# Altium footprint library PcbLib1.PcbLib: 10 footprints
Each footprint in its own frame and in the unit in brackets; x right, y up, seen from the top. Pads: shape width x height; smd on the part's side, far side on the other; paste and mask are expansions set on the pad; w line width, h text height; cw(c..) or ccw(c..) is an arc to the next point about the centre after c.
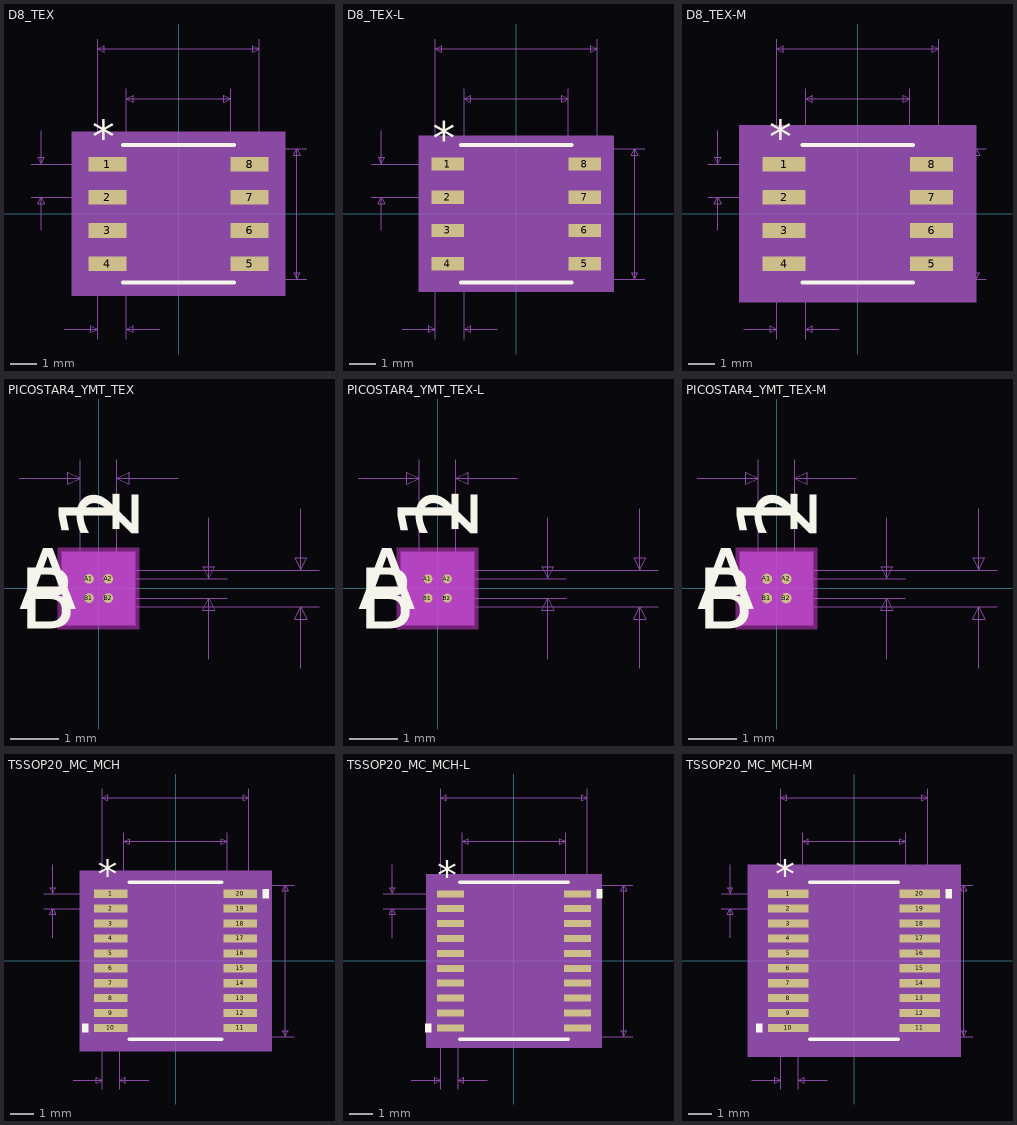
[diagram p0: the footprints below, top view; thin cyan lines are the x and y axes]

## D8_TEX [mm]
pads (8):
  rect 1.455x0.558 smd paste+0 mask+0: 1(-2.721,1.905) 2(-2.721,0.635) 3(-2.721,-0.635) 4(-2.721,-1.905) 5(2.721,-1.905) 6(2.721,-0.635) 7(2.721,0.635) 8(2.721,1.905)
Top Overlay:
  lines w0.152: -2.121,-2.629 2.121,-2.629 ; -2.121,2.629 2.121,2.629
  text "*" at -3.293,2.336 h1.27
Mechanical 5:
  region: 4.084,-3.137 -4.084,-3.137 -4.084,3.137 4.084,3.137
Mechanical 7:
  lines w0.025: -5.642,0.635 -2.721,0.635 ; -5.642,1.905 -2.721,1.905 ; -5.261,-0.635 -5.261,0.635 ; -5.261,3.175 -5.261,1.905 ; -4.369,-4.407 -3.099,-4.407 ; -3.099,-4.788 -3.099,0 -3.099,6.693 ; -1.994,-4.788 -1.994,0 -1.994,4.788 ; -0.724,-4.407 -1.994,-4.407 ; 0,-2.502 4.915,-2.502 ; 0,2.502 4.915,2.502 ; 1.994,0 1.994,4.788 ; 3.099,0 3.099,6.693 ; -5.261,0.635 -5.388,0.381 -5.134,0.381 -5.261,0.635 ; -5.261,1.905 -5.388,2.159 -5.134,2.159 -5.261,1.905 ; -3.099,-4.407 -3.353,-4.28 -3.353,-4.534 -3.099,-4.407 ; -3.099,6.312 3.099,6.312 ; -3.099,6.312 -2.845,6.439 -2.845,6.185 -3.099,6.312 ; -1.994,-4.407 -1.74,-4.28 -1.74,-4.534 -1.994,-4.407 ; -1.994,4.407 1.994,4.407 ; -1.994,4.407 -1.74,4.534 -1.74,4.28 -1.994,4.407 ; 1.994,4.407 1.74,4.534 1.74,4.28 1.994,4.407 ; 3.099,6.312 2.845,6.439 2.845,6.185 3.099,6.312 ; 4.534,-2.502 4.534,2.502 ; 4.534,-2.502 4.407,-2.248 4.661,-2.248 4.534,-2.502 ; 4.534,2.502 4.407,2.248 4.661,2.248 4.534,2.502
  text "Default Padstyle: r145_56" at -7.938,-7.582 h1.27
  text "Pin One Padstyle: r145_56" at -7.938,-9.106 h1.27
  text "Alt 1 Padstyle: b152_229h76" at -8.572,-13.678 h1.27
  text "Alt 2 Padstyle: b229_152h76" at -8.572,-15.202 h1.27
  text "0.157in/3.988mm" at -2.381,4.915 h0.64
  text "0.244in/6.198mm" at -2.381,6.82 h0.64
  text "0.197in/5.004mm" at 5.042,-0.318 h0.64
  text "0.05in/1.27mm" at -9.897,0.953 h0.64
  text "0.05in/1.27mm" at -4.61,-5.55 h0.64
Mechanical 13:
  lines w0: -0.305,2.502 ccw(c0,2.502) 0.305,2.502
  lines w0.025: -3.099,-2.159 -3.099,-1.651 -1.994,-1.651 -1.994,-2.159 -3.099,-2.159 ; -3.099,-0.889 -3.099,-0.381 -1.994,-0.381 -1.994,-0.889 -3.099,-0.889 ; -3.099,0.381 -3.099,0.889 -1.994,0.889 -1.994,0.381 -3.099,0.381 ; -3.099,1.651 -3.099,2.159 -1.994,2.159 -1.994,1.651 -3.099,1.651 ; -1.994,-2.502 1.994,-2.502 1.994,2.502 -1.994,2.502 -1.994,-2.502 ; 1.994,-2.159 1.994,-1.651 3.099,-1.651 3.099,-2.159 1.994,-2.159 ; 1.994,-0.889 1.994,-0.381 3.099,-0.381 3.099,-0.889 1.994,-0.889 ; 1.994,0.381 1.994,0.889 3.099,0.889 3.099,0.381 1.994,0.381 ; 1.994,1.651 1.994,2.159 3.099,2.159 3.099,1.651 1.994,1.651
  text "*" at -1.93,1.156 h1.27
Mechanical 15:
  region: -2.248,-2.438 -3.703,-2.438 -3.703,2.438 -2.248,2.438 -2.248,2.756 2.248,2.756 2.248,2.438 3.703,2.438 3.703,-2.438 2.248,-2.438 2.248,-2.756 -2.248,-2.756
  lines w0.152: -3.703,-2.438 -3.703,2.438 -2.248,2.438 -2.248,2.756 2.248,2.756 2.248,2.438 3.703,2.438 3.703,-2.438 2.248,-2.438 2.248,-2.756 -2.248,-2.756 -2.248,-2.438 -3.703,-2.438
3D body "D8_TEX.step": height 1.76, standoff 0, extent -3.099,-2.502 3.099,2.502

## D8_TEX-L [mil]
pads (8):
  rect 49.41x20 smd paste+0 mask+0: 1(-103.2,75) 2(-103.2,25) 3(-103.2,-25) 4(-103.2,-75) 5(103.2,-75) 6(103.2,-25) 7(103.2,25) 8(103.2,75)
Top Overlay:
  lines w6: -83.5,-103.5 83.5,-103.5 ; -83.5,103.5 83.5,103.5
  text "*" at -125.7,90 h50
Mechanical 5:
  region: 146.91,-117.5 -146.91,-117.5 -146.91,117.5 146.91,117.5
Mechanical 7:
  lines w1: -218.2,25 -103.2,25 ; -218.2,75 -103.2,75 ; -203.2,-25 -203.2,25 ; -203.2,125 -203.2,75 ; -172,-173.5 -122,-173.5 ; -122,-188.5 -122,0 -122,263.5 ; -78.5,-188.5 -78.5,0 -78.5,188.5 ; -28.5,-173.5 -78.5,-173.5 ; 0,-98.5 193.5,-98.5 ; 0,98.5 193.5,98.5 ; 78.5,0 78.5,188.5 ; 122,0 122,263.5 ; -203.2,25 -208.2,15 -198.2,15 -203.2,25 ; -203.2,75 -208.2,85 -198.2,85 -203.2,75 ; -122,-173.5 -132,-168.5 -132,-178.5 -122,-173.5 ; -122,248.5 122,248.5 ; -122,248.5 -112,253.5 -112,243.5 -122,248.5 ; -78.5,-173.5 -68.5,-168.5 -68.5,-178.5 -78.5,-173.5 ; -78.5,173.5 78.5,173.5 ; -78.5,173.5 -68.5,178.5 -68.5,168.5 -78.5,173.5 ; 78.5,173.5 68.5,178.5 68.5,168.5 78.5,173.5 ; 122,248.5 112,253.5 112,243.5 122,248.5 ; 178.5,-98.5 178.5,98.5 ; 178.5,-98.5 173.5,-88.5 183.5,-88.5 178.5,-98.5 ; 178.5,98.5 173.5,88.5 183.5,88.5 178.5,98.5
  text "Default Padstyle: r125_51" at -312.5,-298.5 h50
  text "Pin One Padstyle: r125_51" at -312.5,-358.5 h50
  text "Alt 1 Padstyle: b152_229h76" at -337.5,-538.5 h50
  text "Alt 2 Padstyle: b229_152h76" at -337.5,-598.5 h50
  text "0.157in/3.988mm" at -93.75,193.5 h25
  text "0.244in/6.198mm" at -93.75,268.5 h25
  text "0.197in/5.004mm" at 198.5,-12.5 h25
  text "0.05in/1.27mm" at -385.7,37.5 h25
  text "0.05in/1.27mm" at -181.5,-218.5 h25
Mechanical 13:
  lines w0: -12,98.5 ccw(c0,98.5) 12,98.5
  lines w1: -122,-85 -122,-65 -78.5,-65 -78.5,-85 -122,-85 ; -122,-35 -122,-15 -78.5,-15 -78.5,-35 -122,-35 ; -122,15 -122,35 -78.5,35 -78.5,15 -122,15 ; -122,65 -122,85 -78.5,85 -78.5,65 -122,65 ; -78.5,-98.5 78.5,-98.5 78.5,98.5 -78.5,98.5 -78.5,-98.5 ; 78.5,-85 78.5,-65 122,-65 122,-85 78.5,-85 ; 78.5,-35 78.5,-15 122,-15 122,-35 78.5,-35 ; 78.5,15 78.5,35 122,35 122,15 78.5,15 ; 78.5,65 78.5,85 122,85 122,65 78.5,65
  text "*" at -76,45.5 h50
Mechanical 15:
  region: -82.5,-89 -131.91,-89 -131.91,89 -82.5,89 -82.5,102.5 82.5,102.5 82.5,89 131.91,89 131.91,-89 82.5,-89 82.5,-102.5 -82.5,-102.5
  lines w6: -131.91,-89 -131.91,89 -82.5,89 -82.5,102.5 82.5,102.5 82.5,89 131.91,89 131.91,-89 82.5,-89 82.5,-102.5 -82.5,-102.5 -82.5,-89 -131.91,-89
3D body "D8_TEX.step": height 69.09, standoff 0, extent -122.01,-98.5 122.01,98.5

## D8_TEX-M [mm]
pads (8):
  rect 1.655x0.558 smd paste+0 mask+0: 1(-2.821,1.905) 2(-2.821,0.635) 3(-2.821,-0.635) 4(-2.821,-1.905) 5(2.821,-1.905) 6(2.821,-0.635) 7(2.821,0.635) 8(2.821,1.905)
Top Overlay:
  lines w0.152: -2.121,-2.629 2.121,-2.629 ; -2.121,2.629 2.121,2.629
  text "*" at -3.393,2.336 h1.27
Mechanical 5:
  region: 4.538,-3.391 -4.538,-3.391 -4.538,3.391 4.538,3.391
Mechanical 7:
  lines w0.025: -5.742,0.635 -2.821,0.635 ; -5.742,1.905 -2.821,1.905 ; -5.361,-0.635 -5.361,0.635 ; -5.361,3.175 -5.361,1.905 ; -4.369,-4.407 -3.099,-4.407 ; -3.099,-4.788 -3.099,0 -3.099,6.693 ; -1.994,-4.788 -1.994,0 -1.994,4.788 ; -0.724,-4.407 -1.994,-4.407 ; 0,-2.502 4.915,-2.502 ; 0,2.502 4.915,2.502 ; 1.994,0 1.994,4.788 ; 3.099,0 3.099,6.693 ; -5.361,0.635 -5.488,0.381 -5.234,0.381 -5.361,0.635 ; -5.361,1.905 -5.488,2.159 -5.234,2.159 -5.361,1.905 ; -3.099,-4.407 -3.353,-4.28 -3.353,-4.534 -3.099,-4.407 ; -3.099,6.312 3.099,6.312 ; -3.099,6.312 -2.845,6.439 -2.845,6.185 -3.099,6.312 ; -1.994,-4.407 -1.74,-4.28 -1.74,-4.534 -1.994,-4.407 ; -1.994,4.407 1.994,4.407 ; -1.994,4.407 -1.74,4.534 -1.74,4.28 -1.994,4.407 ; 1.994,4.407 1.74,4.534 1.74,4.28 1.994,4.407 ; 3.099,6.312 2.845,6.439 2.845,6.185 3.099,6.312 ; 4.534,-2.502 4.534,2.502 ; 4.534,-2.502 4.407,-2.248 4.661,-2.248 4.534,-2.502 ; 4.534,2.502 4.407,2.248 4.661,2.248 4.534,2.502
  text "Default Padstyle: r165_56" at -7.938,-7.582 h1.27
  text "Pin One Padstyle: r165_56" at -7.938,-9.106 h1.27
  text "Alt 1 Padstyle: b152_229h76" at -8.572,-13.678 h1.27
  text "Alt 2 Padstyle: b229_152h76" at -8.572,-15.202 h1.27
  text "0.157in/3.988mm" at -2.381,4.915 h0.64
  text "0.244in/6.198mm" at -2.381,6.82 h0.64
  text "0.197in/5.004mm" at 5.042,-0.318 h0.64
  text "0.05in/1.27mm" at -9.997,0.953 h0.64
  text "0.05in/1.27mm" at -4.61,-5.55 h0.64
Mechanical 13:
  lines w0: -0.305,2.502 ccw(c0,2.502) 0.305,2.502
  lines w0.025: -3.099,-2.159 -3.099,-1.651 -1.994,-1.651 -1.994,-2.159 -3.099,-2.159 ; -3.099,-0.889 -3.099,-0.381 -1.994,-0.381 -1.994,-0.889 -3.099,-0.889 ; -3.099,0.381 -3.099,0.889 -1.994,0.889 -1.994,0.381 -3.099,0.381 ; -3.099,1.651 -3.099,2.159 -1.994,2.159 -1.994,1.651 -3.099,1.651 ; -1.994,-2.502 1.994,-2.502 1.994,2.502 -1.994,2.502 -1.994,-2.502 ; 1.994,-2.159 1.994,-1.651 3.099,-1.651 3.099,-2.159 1.994,-2.159 ; 1.994,-0.889 1.994,-0.381 3.099,-0.381 3.099,-0.889 1.994,-0.889 ; 1.994,0.381 1.994,0.889 3.099,0.889 3.099,0.381 1.994,0.381 ; 1.994,1.651 1.994,2.159 3.099,2.159 3.099,1.651 1.994,1.651
  text "*" at -1.93,1.156 h1.27
Mechanical 15:
  region: -2.502,-2.692 -4.157,-2.692 -4.157,2.692 -2.502,2.692 -2.502,3.01 2.502,3.01 2.502,2.692 4.157,2.692 4.157,-2.692 2.502,-2.692 2.502,-3.01 -2.502,-3.01
  lines w0.152: -4.157,-2.692 -4.157,2.692 -2.502,2.692 -2.502,3.01 2.502,3.01 2.502,2.692 4.157,2.692 4.157,-2.692 2.502,-2.692 2.502,-3.01 -2.502,-3.01 -2.502,-2.692 -4.157,-2.692
3D body "D8_TEX.step": height 1.76, standoff 0, extent -3.099,-2.502 3.099,2.502

## PCBComponent_1 [mm]

## PICOSTAR4_YMT_TEX [mm]
pads (4):
  round 0.203 smd paste+0 mask+0: A1(-0.2,0.2) A2(0.2,0.2) B1(-0.2,-0.2) B2(0.2,-0.2)
Top Overlay:
  text "A" at -1.651,-0.435 h1.27
  text "B" at -1.651,-0.835 h1.27
  text "1" at 0.435,1.016 h1.27
  text "2" at 0.835,1.016 h1.27
Bottom Overlay:
  text "A" at -1.016,-0.435 h1.27
  text "B" at -1.016,-0.835 h1.27
  text "1" at -0.835,1.016 h1.27
  text "2" at -0.435,1.016 h1.27
Keep-Out Layer:
  region: -0.844,-0.844 -0.844,0.844 0.844,0.844 0.844,-0.844
Mechanical 5:
  region: 0.762,-0.762 -0.762,-0.762 -0.762,0.762 0.762,0.762
Mechanical 7:
  lines w0.025: -1.651,2.286 -0.381,2.286 ; -0.381,0 -0.381,2.667 ; 0,-0.381 4.572,-0.381 ; 0,0.381 4.572,0.381 ; 0.2,-0.2 2.667,-0.2 ; 0.2,0.2 2.667,0.2 ; 0.381,0 0.381,2.667 ; 1.651,2.286 0.381,2.286 ; 2.286,-1.47 2.286,-0.2 ; 2.286,1.47 2.286,0.2 ; 4.191,-1.651 4.191,-0.381 ; 4.191,1.651 4.191,0.381 ; -0.381,2.286 -0.635,2.413 -0.635,2.159 -0.381,2.286 ; 0.381,2.286 0.635,2.413 0.635,2.159 0.381,2.286 ; 2.286,-0.2 2.159,-0.454 2.413,-0.454 2.286,-0.2 ; 2.286,0.2 2.159,0.454 2.413,0.454 2.286,0.2 ; 4.191,-0.381 4.064,-0.635 4.318,-0.635 4.191,-0.381 ; 4.191,0.381 4.064,0.635 4.318,0.635 4.191,0.381
  text "Default Padstyle: c20" at -6.667,-5.461 h1.27
  text "0.016in/0.4mm" at 2.794,-0.318 h0.64
  text "0.03in/0.762mm" at -2.222,2.794 h0.64
  text "0.03in/0.762mm" at 4.699,-0.318 h0.64
Mechanical 13:
  lines w0.025: -0.381,0.181 -0.181,0.381 ; -0.381,-0.381 0.381,-0.381 0.381,0.381 -0.381,0.381 -0.381,-0.381
  text "A" at -1.651,-0.435 h1.27
  text "B" at -1.651,-0.835 h1.27
  text "1" at 0.435,1.016 h1.27
  text "2" at 0.835,1.016 h1.27
Mechanical 15:
  region: 0.635,-0.635 -0.635,-0.635 -0.635,0.635 0.635,0.635
  lines w0.152: -0.635,-0.635 -0.635,0.635 0.635,0.635 0.635,-0.635 -0.635,-0.635
3D body "PICOSTAR4_YMT_TEX.step": height 0.31, standoff 0, extent -0.381,-0.381 0.381,0.381

## PICOSTAR4_YMT_TEX-L [mm]
pads (4):
  round 0.191 smd paste+0 mask+0: A1(-0.2,0.2) A2(0.2,0.2) B1(-0.2,-0.2) B2(0.2,-0.2)
Top Overlay:
  text "A" at -1.651,-0.435 h1.27
  text "B" at -1.651,-0.835 h1.27
  text "1" at 0.435,1.016 h1.27
  text "2" at 0.835,1.016 h1.27
Bottom Overlay:
  text "A" at -1.016,-0.435 h1.27
  text "B" at -1.016,-0.835 h1.27
  text "1" at -0.835,1.016 h1.27
  text "2" at -0.435,1.016 h1.27
Keep-Out Layer:
  region: -0.844,-0.844 -0.844,0.844 0.844,0.844 0.844,-0.844
Mechanical 5:
  region: 0.762,-0.762 -0.762,-0.762 -0.762,0.762 0.762,0.762
Mechanical 7:
  lines w0.025: -1.651,2.286 -0.381,2.286 ; -0.381,0 -0.381,2.667 ; 0,-0.381 4.572,-0.381 ; 0,0.381 4.572,0.381 ; 0.2,-0.2 2.667,-0.2 ; 0.2,0.2 2.667,0.2 ; 0.381,0 0.381,2.667 ; 1.651,2.286 0.381,2.286 ; 2.286,-1.47 2.286,-0.2 ; 2.286,1.47 2.286,0.2 ; 4.191,-1.651 4.191,-0.381 ; 4.191,1.651 4.191,0.381 ; -0.381,2.286 -0.635,2.413 -0.635,2.159 -0.381,2.286 ; 0.381,2.286 0.635,2.413 0.635,2.159 0.381,2.286 ; 2.286,-0.2 2.159,-0.454 2.413,-0.454 2.286,-0.2 ; 2.286,0.2 2.159,0.454 2.413,0.454 2.286,0.2 ; 4.191,-0.381 4.064,-0.635 4.318,-0.635 4.191,-0.381 ; 4.191,0.381 4.064,0.635 4.318,0.635 4.191,0.381
  text "Default Padstyle: c19" at -6.667,-5.461 h1.27
  text "0.016in/0.4mm" at 2.794,-0.318 h0.64
  text "0.03in/0.762mm" at -2.222,2.794 h0.64
  text "0.03in/0.762mm" at 4.699,-0.318 h0.64
Mechanical 13:
  lines w0.025: -0.381,0.181 -0.181,0.381 ; -0.381,-0.381 0.381,-0.381 0.381,0.381 -0.381,0.381 -0.381,-0.381
  text "A" at -1.651,-0.435 h1.27
  text "B" at -1.651,-0.835 h1.27
  text "1" at 0.435,1.016 h1.27
  text "2" at 0.835,1.016 h1.27
Mechanical 15:
  region: 0.635,-0.635 -0.635,-0.635 -0.635,0.635 0.635,0.635
  lines w0.152: -0.635,-0.635 -0.635,0.635 0.635,0.635 0.635,-0.635 -0.635,-0.635
3D body "PICOSTAR4_YMT_TEX.step": height 0.31, standoff 0, extent -0.381,-0.381 0.381,0.381

## PICOSTAR4_YMT_TEX-M [mm]
pads (4):
  round 0.216 smd paste+0 mask+0: A1(-0.2,0.2) A2(0.2,0.2) B1(-0.2,-0.2) B2(0.2,-0.2)
Top Overlay:
  text "A" at -1.651,-0.435 h1.27
  text "B" at -1.651,-0.835 h1.27
  text "1" at 0.435,1.016 h1.27
  text "2" at 0.835,1.016 h1.27
Bottom Overlay:
  text "A" at -1.016,-0.435 h1.27
  text "B" at -1.016,-0.835 h1.27
  text "1" at -0.835,1.016 h1.27
  text "2" at -0.435,1.016 h1.27
Keep-Out Layer:
  region: -0.844,-0.844 -0.844,0.844 0.844,0.844 0.844,-0.844
Mechanical 5:
  region: 0.762,-0.762 -0.762,-0.762 -0.762,0.762 0.762,0.762
Mechanical 7:
  lines w0.025: -1.651,2.286 -0.381,2.286 ; -0.381,0 -0.381,2.667 ; 0,-0.381 4.572,-0.381 ; 0,0.381 4.572,0.381 ; 0.2,-0.2 2.667,-0.2 ; 0.2,0.2 2.667,0.2 ; 0.381,0 0.381,2.667 ; 1.651,2.286 0.381,2.286 ; 2.286,-1.47 2.286,-0.2 ; 2.286,1.47 2.286,0.2 ; 4.191,-1.651 4.191,-0.381 ; 4.191,1.651 4.191,0.381 ; -0.381,2.286 -0.635,2.413 -0.635,2.159 -0.381,2.286 ; 0.381,2.286 0.635,2.413 0.635,2.159 0.381,2.286 ; 2.286,-0.2 2.159,-0.454 2.413,-0.454 2.286,-0.2 ; 2.286,0.2 2.159,0.454 2.413,0.454 2.286,0.2 ; 4.191,-0.381 4.064,-0.635 4.318,-0.635 4.191,-0.381 ; 4.191,0.381 4.064,0.635 4.318,0.635 4.191,0.381
  text "Default Padstyle: c22" at -6.667,-5.461 h1.27
  text "0.016in/0.4mm" at 2.794,-0.318 h0.64
  text "0.03in/0.762mm" at -2.222,2.794 h0.64
  text "0.03in/0.762mm" at 4.699,-0.318 h0.64
Mechanical 13:
  lines w0.025: -0.381,0.181 -0.181,0.381 ; -0.381,-0.381 0.381,-0.381 0.381,0.381 -0.381,0.381 -0.381,-0.381
  text "A" at -1.651,-0.435 h1.27
  text "B" at -1.651,-0.835 h1.27
  text "1" at 0.435,1.016 h1.27
  text "2" at 0.835,1.016 h1.27
Mechanical 15:
  region: 0.635,-0.635 -0.635,-0.635 -0.635,0.635 0.635,0.635
  lines w0.152: -0.635,-0.635 -0.635,0.635 0.635,0.635 0.635,-0.635 -0.635,-0.635
3D body "PICOSTAR4_YMT_TEX.step": height 0.31, standoff 0, extent -0.381,-0.381 0.381,0.381

## TSSOP20_MC_MCH [mm]
pads (20):
  rect 1.462x0.355 smd paste+0 mask+0: 1(-2.819,2.925) 2(-2.819,2.275) 3(-2.819,1.625) 4(-2.819,0.975) 5(-2.819,0.325) 6(-2.819,-0.325) 7(-2.819,-0.975) 8(-2.819,-1.625) 9(-2.819,-2.275) 10(-2.819,-2.925) 11(2.819,-2.925) 12(2.819,-2.275) 13(2.819,-1.625) 14(2.819,-0.975) 15(2.819,-0.325) 16(2.819,0.325) 17(2.819,0.975) 18(2.819,1.625) 19(2.819,2.275) 20(2.819,2.925)
Top Overlay:
  region: -3.804,-2.734 -4.058,-2.734 -4.058,-3.115 -3.804,-3.115
  region: 3.804,3.115 4.058,3.115 4.058,2.734 3.804,2.734
  lines w0.152: -2.025,-3.429 2.025,-3.429 ; -2.025,3.429 2.025,3.429
  text "*" at -3.391,3.153 h1.27
Mechanical 5:
  region: 4.185,-3.937 -4.185,-3.937 -4.185,3.937 4.185,3.937
Mechanical 7:
  lines w0.025: -5.74,2.275 -2.819,2.275 ; -5.74,2.925 -2.819,2.925 ; -5.359,1.005 -5.359,2.275 ; -5.359,4.195 -5.359,2.925 ; -4.47,-5.207 -3.2,-5.207 ; -3.2,-5.588 -3.2,0 -3.2,7.493 ; -2.438,-5.588 -2.438,0 ; -2.248,0 -2.248,5.588 ; -1.168,-5.207 -2.438,-5.207 ; 0,-3.302 5.169,-3.302 ; 0,3.302 5.169,3.302 ; 2.248,0 2.248,5.588 ; 3.2,0 3.2,7.493 ; -5.359,2.275 -5.486,2.021 -5.232,2.021 -5.359,2.275 ; -5.359,2.925 -5.486,3.179 -5.232,3.179 -5.359,2.925 ; -3.2,-5.207 -3.454,-5.08 -3.454,-5.334 -3.2,-5.207 ; -3.2,7.112 3.2,7.112 ; -3.2,7.112 -2.946,7.239 -2.946,6.985 -3.2,7.112 ; -2.438,-5.207 -2.184,-5.08 -2.184,-5.334 -2.438,-5.207 ; -2.248,5.207 2.248,5.207 ; -2.248,5.207 -1.994,5.334 -1.994,5.08 -2.248,5.207 ; 2.248,5.207 1.994,5.334 1.994,5.08 2.248,5.207 ; 3.2,7.112 2.946,7.239 2.946,6.985 3.2,7.112 ; 4.788,-3.302 4.788,3.302 ; 4.788,-3.302 4.661,-3.048 4.915,-3.048 4.788,-3.302 ; 4.788,3.302 4.661,3.048 4.915,3.048 4.788,3.302
  text "Default Padstyle: r146_35" at -7.938,-8.382 h1.27
  text "Pin One Padstyle: r146_35" at -7.938,-9.906 h1.27
  text "Alt 1 Padstyle: b152_229h76" at -8.572,-14.478 h1.27
  text "Alt 2 Padstyle: b229_152h76" at -8.572,-16.002 h1.27
  text "0.177in/4.496mm" at -2.381,5.715 h0.64
  text "0.252in/6.401mm" at -2.381,7.62 h0.64
  text "0.26in/6.604mm" at 5.296,-0.318 h0.64
  text "0.026in/0.65mm" at -10.312,2.282 h0.64
  text "0.03in/0.762mm" at -5.042,-6.35 h0.64
Mechanical 13:
  lines w0: -0.305,3.302 ccw(c0,3.302) 0.305,3.302
  lines w0.025: -3.2,-3.077 -3.2,-2.773 -2.248,-2.773 -2.248,-3.077 -3.2,-3.077 ; -3.2,-2.427 -3.2,-2.123 -2.248,-2.123 -2.248,-2.427 -3.2,-2.427 ; -3.2,-1.777 -3.2,-1.473 -2.248,-1.473 -2.248,-1.777 -3.2,-1.777 ; -3.2,-1.127 -3.2,-0.823 -2.248,-0.823 -2.248,-1.127 -3.2,-1.127 ; -3.2,-0.477 -3.2,-0.173 -2.248,-0.173 -2.248,-0.477 -3.2,-0.477 ; -3.2,0.173 -3.2,0.477 -2.248,0.477 -2.248,0.173 -3.2,0.173 ; -3.2,0.823 -3.2,1.127 -2.248,1.127 -2.248,0.823 -3.2,0.823 ; -3.2,1.473 -3.2,1.777 -2.248,1.777 -2.248,1.473 -3.2,1.473 ; -3.2,2.123 -3.2,2.427 -2.248,2.427 -2.248,2.123 -3.2,2.123 ; -3.2,2.773 -3.2,3.077 -2.248,3.077 -2.248,2.773 -3.2,2.773 ; -2.248,-3.302 2.248,-3.302 2.248,3.302 -2.248,3.302 -2.248,-3.302 ; 2.248,-3.077 2.248,-2.773 3.2,-2.773 3.2,-3.077 2.248,-3.077 ; 2.248,-2.427 2.248,-2.123 3.2,-2.123 3.2,-2.427 2.248,-2.427 ; 2.248,-1.777 2.248,-1.473 3.2,-1.473 3.2,-1.777 2.248,-1.777 ; 2.248,-1.127 2.248,-0.823 3.2,-0.823 3.2,-1.127 2.248,-1.127 ; 2.248,-0.477 2.248,-0.173 3.2,-0.173 3.2,-0.477 2.248,-0.477 ; 2.248,0.173 2.248,0.477 3.2,0.477 3.2,0.173 2.248,0.173 ; 2.248,0.823 2.248,1.127 3.2,1.127 3.2,0.823 2.248,0.823 ; 2.248,1.473 2.248,1.777 3.2,1.777 3.2,1.473 2.248,1.473 ; 2.248,2.123 2.248,2.427 3.2,2.427 3.2,2.123 2.248,2.123 ; 2.248,2.773 2.248,3.077 3.2,3.077 3.2,2.773 2.248,2.773
  text "*" at -2.184,1.956 h1.27
Mechanical 15:
  region: -2.502,-3.356 -3.804,-3.356 -3.804,3.356 -2.502,3.356 -2.502,3.556 2.502,3.556 2.502,3.356 3.804,3.356 3.804,-3.356 2.502,-3.356 2.502,-3.556 -2.502,-3.556
  lines w0.152: -3.804,-3.356 -3.804,3.356 -2.502,3.356 -2.502,3.556 2.502,3.556 2.502,3.356 3.804,3.356 3.804,-3.356 2.502,-3.356 2.502,-3.556 -2.502,-3.556 -2.502,-3.356 -3.804,-3.356
3D body "TSSOP20_MC_MCH.step": height 1.2, standoff 0, extent -3.2,-3.302 3.2,3.302

## TSSOP20_MC_MCH-L [mm]
pads (20):
  rect 1.162x0.305 smd paste+0 mask+0: 1(-2.769,2.925) 2(-2.769,2.275) 3(-2.769,1.625) 4(-2.769,0.975) 5(-2.769,0.325) 6(-2.769,-0.325) 7(-2.769,-0.975) 8(-2.769,-1.625) 9(-2.769,-2.275) 10(-2.769,-2.925) 11(2.769,-2.925) 12(2.769,-2.275) 13(2.769,-1.625) 14(2.769,-0.975) 15(2.769,-0.325) 16(2.769,0.325) 17(2.769,0.975) 18(2.769,1.625) 19(2.769,2.275) 20(2.769,2.925)
Top Overlay:
  region: 3.604,3.115 3.858,3.115 3.858,2.734 3.604,2.734
  region: -3.604,-2.734 -3.858,-2.734 -3.858,-3.115 -3.604,-3.115
  lines w0.152: -2.375,-3.429 2.375,-3.429 ; -2.375,3.429 2.375,3.429
  text "*" at -3.341,3.103 h1.27
Mechanical 5:
  region: 3.833,-3.785 -3.833,-3.785 -3.833,3.785 3.833,3.785
Mechanical 7:
  lines w0.025: -5.69,2.275 -2.769,2.275 ; -5.69,2.925 -2.769,2.925 ; -5.309,1.005 -5.309,2.275 ; -5.309,4.195 -5.309,2.925 ; -4.47,-5.207 -3.2,-5.207 ; -3.2,-5.588 -3.2,0 -3.2,7.493 ; -2.438,-5.588 -2.438,0 ; -2.248,0 -2.248,5.588 ; -1.168,-5.207 -2.438,-5.207 ; 0,-3.302 5.169,-3.302 ; 0,3.302 5.169,3.302 ; 2.248,0 2.248,5.588 ; 3.2,0 3.2,7.493 ; -5.309,2.275 -5.182,2.021 -5.436,2.021 -5.309,2.275 ; -5.309,2.925 -5.182,3.179 -5.436,3.179 -5.309,2.925 ; -3.2,-5.207 -3.454,-5.334 -3.454,-5.08 -3.2,-5.207 ; -3.2,7.112 -2.946,6.985 -2.946,7.239 -3.2,7.112 ; -3.2,7.112 3.2,7.112 ; -2.438,-5.207 -2.184,-5.334 -2.184,-5.08 -2.438,-5.207 ; -2.248,5.207 -1.994,5.08 -1.994,5.334 -2.248,5.207 ; -2.248,5.207 2.248,5.207 ; 2.248,5.207 1.994,5.08 1.994,5.334 2.248,5.207 ; 3.2,7.112 2.946,6.985 2.946,7.239 3.2,7.112 ; 4.788,-3.302 4.915,-3.048 4.661,-3.048 4.788,-3.302 ; 4.788,-3.302 4.788,3.302 ; 4.788,3.302 4.915,3.048 4.661,3.048 4.788,3.302
  text "0.03in/0.762mm" at -5.042,-6.35 h0.64
  text "0.026in/0.65mm" at -10.262,2.282 h0.64
  text "0.26in/6.604mm" at 5.296,-0.318 h0.64
  text "0.252in/6.401mm" at -2.381,7.62 h0.64
  text "0.177in/4.496mm" at -2.381,5.715 h0.64
  text "Alt 2 Padstyle: b229_152h76" at -8.572,-16.002 h1.27
  text "Alt 1 Padstyle: b152_229h76" at -8.572,-14.478 h1.27
  text "Pin One Padstyle: r116_30" at -7.938,-9.906 h1.27
  text "Default Padstyle: r116_30" at -7.938,-8.382 h1.27
Mechanical 13:
  lines w0: -0.305,3.302 ccw(c0,3.302) 0.305,3.302
  lines w0.025: -3.2,-3.077 -2.248,-3.077 -2.248,-2.773 -3.2,-2.773 -3.2,-3.077 ; -3.2,-2.427 -2.248,-2.427 -2.248,-2.123 -3.2,-2.123 -3.2,-2.427 ; -3.2,-1.777 -2.248,-1.777 -2.248,-1.473 -3.2,-1.473 -3.2,-1.777 ; -3.2,-1.127 -2.248,-1.127 -2.248,-0.823 -3.2,-0.823 -3.2,-1.127 ; -3.2,-0.477 -2.248,-0.477 -2.248,-0.173 -3.2,-0.173 -3.2,-0.477 ; -3.2,0.173 -2.248,0.173 -2.248,0.477 -3.2,0.477 -3.2,0.173 ; -3.2,0.823 -2.248,0.823 -2.248,1.127 -3.2,1.127 -3.2,0.823 ; -3.2,1.473 -2.248,1.473 -2.248,1.777 -3.2,1.777 -3.2,1.473 ; -3.2,2.123 -2.248,2.123 -2.248,2.427 -3.2,2.427 -3.2,2.123 ; -3.2,2.773 -2.248,2.773 -2.248,3.077 -3.2,3.077 -3.2,2.773 ; -2.248,-3.302 -2.248,3.302 2.248,3.302 2.248,-3.302 -2.248,-3.302 ; 2.248,-3.077 3.2,-3.077 3.2,-2.773 2.248,-2.773 2.248,-3.077 ; 2.248,-2.427 3.2,-2.427 3.2,-2.123 2.248,-2.123 2.248,-2.427 ; 2.248,-1.777 3.2,-1.777 3.2,-1.473 2.248,-1.473 2.248,-1.777 ; 2.248,-1.127 3.2,-1.127 3.2,-0.823 2.248,-0.823 2.248,-1.127 ; 2.248,-0.477 3.2,-0.477 3.2,-0.173 2.248,-0.173 2.248,-0.477 ; 2.248,0.173 3.2,0.173 3.2,0.477 2.248,0.477 2.248,0.173 ; 2.248,0.823 3.2,0.823 3.2,1.127 2.248,1.127 2.248,0.823 ; 2.248,1.473 3.2,1.473 3.2,1.777 2.248,1.777 2.248,1.473 ; 2.248,2.123 3.2,2.123 3.2,2.427 2.248,2.427 2.248,2.123 ; 2.248,2.773 3.2,2.773 3.2,3.077 2.248,3.077 2.248,2.773
  text "*" at -2.184,1.956 h1.27
Mechanical 15:
  region: -2.349,-3.179 -3.452,-3.179 -3.452,3.179 -2.349,3.179 -2.349,3.404 2.349,3.404 2.349,3.179 3.452,3.179 3.452,-3.179 2.349,-3.179 2.349,-3.404 -2.349,-3.404
  lines w0.152: -3.452,-3.179 -2.349,-3.179 -2.349,-3.404 2.349,-3.404 2.349,-3.179 3.452,-3.179 3.452,3.179 2.349,3.179 2.349,3.404 -2.349,3.404 -2.349,3.179 -3.452,3.179 -3.452,-3.179
3D body "TSSOP20_MC_MCH.step": height 1.2, standoff 0, extent -3.2,-3.302 3.2,3.302

## TSSOP20_MC_MCH-M [mm]
pads (20):
  rect 1.762x0.355 smd paste+0 mask+0: 1(-2.869,2.925) 2(-2.869,2.275) 3(-2.869,1.625) 4(-2.869,0.975) 5(-2.869,0.325) 6(-2.869,-0.325) 7(-2.869,-0.975) 8(-2.869,-1.625) 9(-2.869,-2.275) 10(-2.869,-2.925) 11(2.869,-2.925) 12(2.869,-2.275) 13(2.869,-1.625) 14(2.869,-0.975) 15(2.869,-0.325) 16(2.869,0.325) 17(2.869,0.975) 18(2.869,1.625) 19(2.869,2.275) 20(2.869,2.925)
Top Overlay:
  region: -4.004,-2.734 -4.258,-2.734 -4.258,-3.115 -4.004,-3.115
  region: 4.004,3.115 4.258,3.115 4.258,2.734 4.004,2.734
  lines w0.152: -1.925,-3.429 1.925,-3.429 ; -1.925,3.429 1.925,3.429
  text "*" at -3.441,3.153 h1.27
Mechanical 5:
  region: 4.639,-4.191 -4.639,-4.191 -4.639,4.191 4.639,4.191
Mechanical 7:
  lines w0.025: -5.79,2.275 -2.869,2.275 ; -5.79,2.925 -2.869,2.925 ; -5.409,1.005 -5.409,2.275 ; -5.409,4.195 -5.409,2.925 ; -4.47,-5.207 -3.2,-5.207 ; -3.2,-5.588 -3.2,0 -3.2,7.493 ; -2.438,-5.588 -2.438,0 ; -2.248,0 -2.248,5.588 ; -1.168,-5.207 -2.438,-5.207 ; 0,-3.302 5.169,-3.302 ; 0,3.302 5.169,3.302 ; 2.248,0 2.248,5.588 ; 3.2,0 3.2,7.493 ; -5.409,2.275 -5.536,2.021 -5.282,2.021 -5.409,2.275 ; -5.409,2.925 -5.536,3.179 -5.282,3.179 -5.409,2.925 ; -3.2,-5.207 -3.454,-5.08 -3.454,-5.334 -3.2,-5.207 ; -3.2,7.112 3.2,7.112 ; -3.2,7.112 -2.946,7.239 -2.946,6.985 -3.2,7.112 ; -2.438,-5.207 -2.184,-5.08 -2.184,-5.334 -2.438,-5.207 ; -2.248,5.207 2.248,5.207 ; -2.248,5.207 -1.994,5.334 -1.994,5.08 -2.248,5.207 ; 2.248,5.207 1.994,5.334 1.994,5.08 2.248,5.207 ; 3.2,7.112 2.946,7.239 2.946,6.985 3.2,7.112 ; 4.788,-3.302 4.788,3.302 ; 4.788,-3.302 4.661,-3.048 4.915,-3.048 4.788,-3.302 ; 4.788,3.302 4.661,3.048 4.915,3.048 4.788,3.302
  text "Default Padstyle: r176_35" at -7.938,-8.382 h1.27
  text "Pin One Padstyle: r176_35" at -7.938,-9.906 h1.27
  text "Alt 1 Padstyle: b152_229h76" at -8.572,-14.478 h1.27
  text "Alt 2 Padstyle: b229_152h76" at -8.572,-16.002 h1.27
  text "0.177in/4.496mm" at -2.381,5.715 h0.64
  text "0.252in/6.401mm" at -2.381,7.62 h0.64
  text "0.26in/6.604mm" at 5.296,-0.318 h0.64
  text "0.026in/0.65mm" at -10.362,2.282 h0.64
  text "0.03in/0.762mm" at -5.042,-6.35 h0.64
Mechanical 13:
  lines w0: -0.305,3.302 ccw(c0,3.302) 0.305,3.302
  lines w0.025: -3.2,-3.077 -3.2,-2.773 -2.248,-2.773 -2.248,-3.077 -3.2,-3.077 ; -3.2,-2.427 -3.2,-2.123 -2.248,-2.123 -2.248,-2.427 -3.2,-2.427 ; -3.2,-1.777 -3.2,-1.473 -2.248,-1.473 -2.248,-1.777 -3.2,-1.777 ; -3.2,-1.127 -3.2,-0.823 -2.248,-0.823 -2.248,-1.127 -3.2,-1.127 ; -3.2,-0.477 -3.2,-0.173 -2.248,-0.173 -2.248,-0.477 -3.2,-0.477 ; -3.2,0.173 -3.2,0.477 -2.248,0.477 -2.248,0.173 -3.2,0.173 ; -3.2,0.823 -3.2,1.127 -2.248,1.127 -2.248,0.823 -3.2,0.823 ; -3.2,1.473 -3.2,1.777 -2.248,1.777 -2.248,1.473 -3.2,1.473 ; -3.2,2.123 -3.2,2.427 -2.248,2.427 -2.248,2.123 -3.2,2.123 ; -3.2,2.773 -3.2,3.077 -2.248,3.077 -2.248,2.773 -3.2,2.773 ; -2.248,-3.302 2.248,-3.302 2.248,3.302 -2.248,3.302 -2.248,-3.302 ; 2.248,-3.077 2.248,-2.773 3.2,-2.773 3.2,-3.077 2.248,-3.077 ; 2.248,-2.427 2.248,-2.123 3.2,-2.123 3.2,-2.427 2.248,-2.427 ; 2.248,-1.777 2.248,-1.473 3.2,-1.473 3.2,-1.777 2.248,-1.777 ; 2.248,-1.127 2.248,-0.823 3.2,-0.823 3.2,-1.127 2.248,-1.127 ; 2.248,-0.477 2.248,-0.173 3.2,-0.173 3.2,-0.477 2.248,-0.477 ; 2.248,0.173 2.248,0.477 3.2,0.477 3.2,0.173 2.248,0.173 ; 2.248,0.823 2.248,1.127 3.2,1.127 3.2,0.823 2.248,0.823 ; 2.248,1.473 2.248,1.777 3.2,1.777 3.2,1.473 2.248,1.473 ; 2.248,2.123 2.248,2.427 3.2,2.427 3.2,2.123 2.248,2.123 ; 2.248,2.773 2.248,3.077 3.2,3.077 3.2,2.773 2.248,2.773
  text "*" at -2.184,1.956 h1.27
Mechanical 15:
  region: -2.756,-3.61 -4.258,-3.61 -4.258,3.61 -2.756,3.61 -2.756,3.81 2.756,3.81 2.756,3.61 4.258,3.61 4.258,-3.61 2.756,-3.61 2.756,-3.81 -2.756,-3.81
  lines w0.152: -4.258,-3.61 -4.258,3.61 -2.756,3.61 -2.756,3.81 2.756,3.81 2.756,3.61 4.258,3.61 4.258,-3.61 2.756,-3.61 2.756,-3.81 -2.756,-3.81 -2.756,-3.61 -4.258,-3.61
3D body "TSSOP20_MC_MCH.step": height 1.2, standoff 0, extent -3.2,-3.302 3.2,3.302